# Altium footprint library Cornix_Library.PcbLib: 10 footprints
Each footprint in its own frame and in the unit in brackets; x right, y up, seen from the top. Pads: shape width x height; smd on the part's side, far side on the other; paste and mask are expansions set on the pad; w line width, h text height; cw(c..) or ccw(c..) is an arc to the next point about the centre after c.
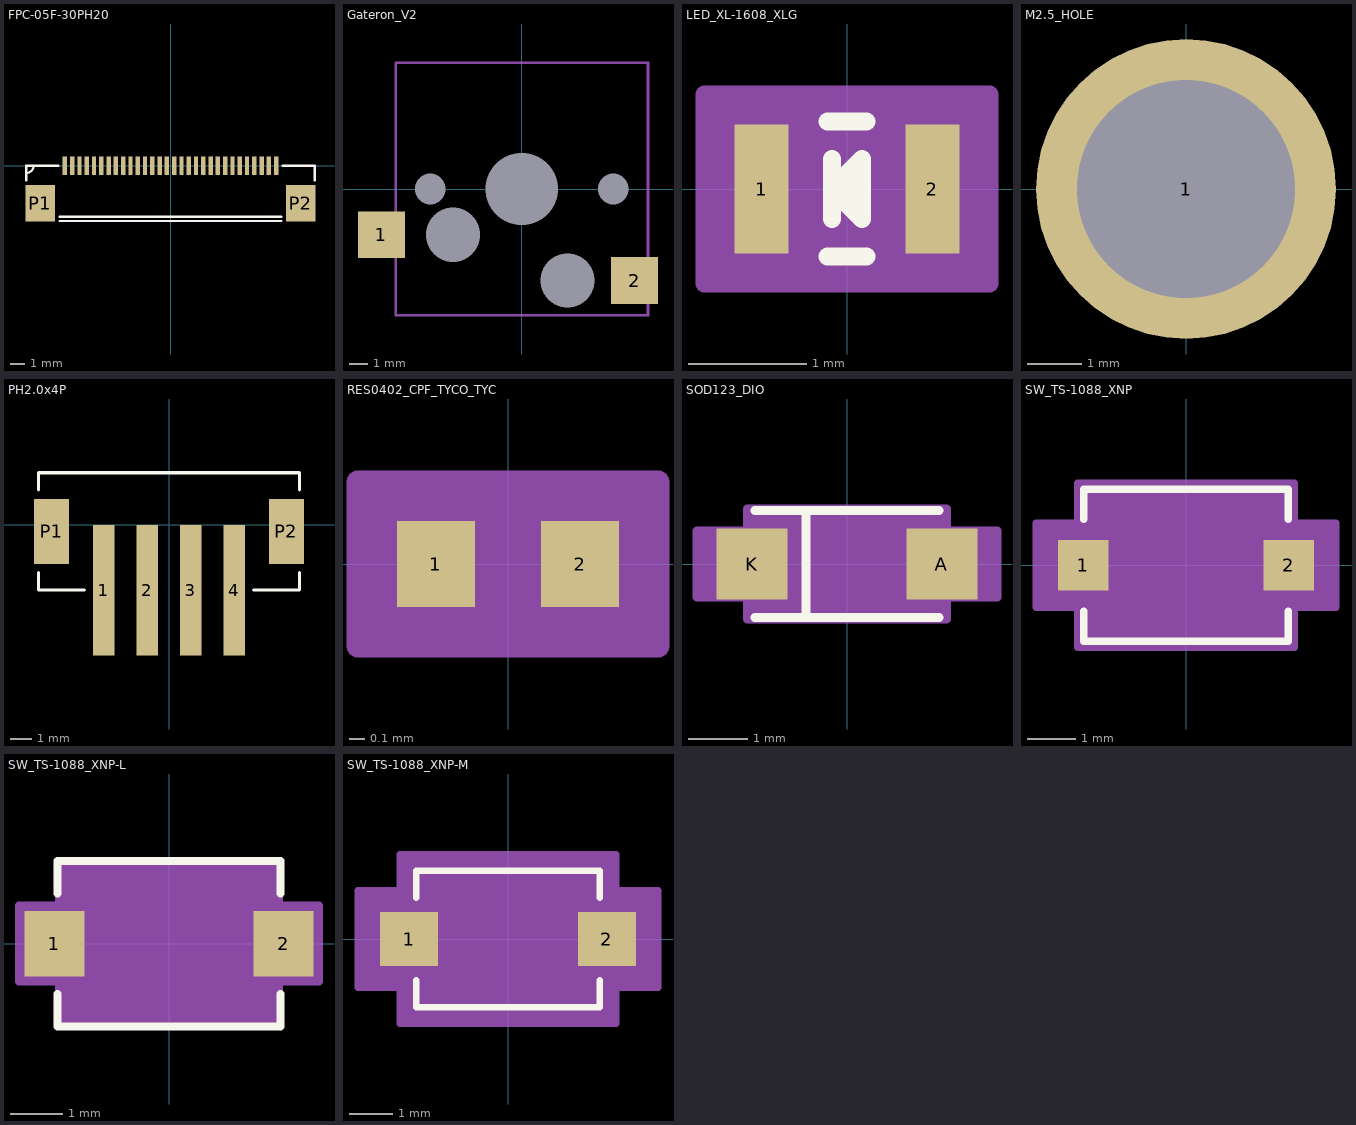
[diagram p0: the footprints below, top view; thin cyan lines are the x and y axes]

## FPC-05F-30PH20 [mm]
pads (32):
  rect 0.3x1.25 smd mask+0: 1(-7.25,0) 2(-6.75,0) 3(-6.25,0) 4(-5.75,0) 5(-5.25,0) 6(-4.75,0) 7(-4.25,0) 8(-3.75,0) 9(-3.25,0) 10(-2.75,0) 11(-2.25,0) 12(-1.75,0) 13(-1.25,0) 14(-0.75,0) 15(-0.25,0) 16(0.25,0) 17(0.75,0) 18(1.25,0) 19(1.75,0) 20(2.25,0) 21(2.75,0) 22(3.25,0) 23(3.75,0) 24(4.25,0) 25(4.75,0) 26(5.25,0) 27(5.75,0) 28(6.25,0) 29(6.75,0) 30(7.25,0)
  rect 2x2.5 smd: P1(-8.94,-2.575) P2(8.94,-2.575)
Top Overlay:
  lines w0.152: -9.9,-1 -9.9,0 -7.7,0 ; -9.9,-0.5 ccw(c-9.9,0) -9.4,0 ; -7.6,-3.8 7.6,-3.8 ; -7.6,-3.5 7.6,-3.5 ; 7.7,0 9.9,0 9.9,-1

## Gateron_V2 [mm]
pads (7):
  rect 2.6x2.6 smd: 1(-7.79,-2.54) 2(6.26,-5.08)
  round 0 hole 1.7: ""(-5.08,0) ""(5.08,0)
  round 0 hole 3: ""(-3.81,-2.54) ""(2.54,-5.08)
  round 0 hole 4: ""(0,0)
Mechanical 1:
  lines w0.152: -7,-7 7,-7 7,7 -7,7 -7,-7

## LED_XL-1608_XLG [mil]
pads (2):
  rect 18x43 smd paste+0 mask+0: 1(-28.5,0) 2(28.5,0)
Top Overlay:
  lines w6: -6.44,-22.5 6.44,-22.5 ; -6.44,22.5 6.44,22.5 ; -5,-10 -5,10 ; -5,0 5,10 ; -5,0 5,-10 5,10 ; -5,0 5,0 5,10
Mechanical 13:
  lines w1: -33.5,-17.5 -33.5,17.5 33.5,17.5 33.5,-17.5 -33.5,-17.5
Mechanical 15:
  region: -43.5,-31.5 -47.5,-31.5 -47.5,31.5 -43.5,31.5 43.5,31.5 47.5,31.5 47.5,-31.5 43.5,-31.5
  lines w6: -47.5,-31.5 -43.5,-31.5 43.5,-31.5 47.5,-31.5 47.5,31.5 43.5,31.5 -43.5,31.5 -47.5,31.5 -47.5,-31.5
3D body "LED_XL-1608_XLG.step": height 20.12, standoff -0.12, extent -33.5,-17.6 33.5,17.6

## M2.5_HOLE [mm]
pads (1):
  round 5.5 hole 4: 1(0,0)

## PH2.0x4P [mm]
pads (6):
  rect 1x6 smd: 1(-3,-3) 2(-1,-3) 3(1,-3) 4(3,-3)
  rect 1.6x3 smd: P1(-5.4,-0.3) P2(5.4,-0.3)
Top Overlay:
  lines w0.152: -6,-2.2 -6,-3 -3.9,-3 ; -6,1.6 -6,2.4 6,2.4 6,1.6 ; 3.9,-3 6,-3 6,-2.2

## RES0402_CPF_TYCO_TYC [mil]
pads (2):
  rect 20x22 smd paste+0 mask+0: 1(-18.5,0) 2(18.5,0)
Mechanical 13:
  lines w1: -20.5,-11 -20.5,11 ; -20.5,-11 -8.5,-11 -8.5,11 -20.5,11 ; -20.5,-11 20.5,-11 ; -20.5,-11 -20.5,11 ; -20.5,11 20.5,11 ; 20.5,-11 8.5,-11 8.5,11 20.5,11 ; 20.5,-11 20.5,11 ; 20.5,-11 20.5,11
Mechanical 15:
  region: 38.5,-21 -38.5,-21 -38.5,21 38.5,21
  lines w6: -38.5,-21 -38.5,21 38.5,21 38.5,-21 -38.5,-21
3D body "RES0402_CPF_TYCO_TYC.step": height 14.02, standoff 0, extent -20.51,-10.98 20.51,10.98

## SOD123_DIO [mm]
pads (2):
  rect 1.2x1.2 smd paste+0 mask+0: A(1.6,0) K(-1.6,0)
Top Overlay:
  lines w0.152: -1.552,-0.902 1.552,-0.902 ; -1.552,0.902 1.552,0.902 ; -0.689,-0.9 -0.689,0.9
Mechanical 13:
  lines w0.025: -1.425,-0.337 -1.087,-0.675 ; -1.425,0.337 -1.087,0.675 ; -1.925,-0.275 -1.425,-0.275 -1.425,0.275 -1.925,0.275 -1.925,-0.275 ; -1.425,-0.675 -1.425,0.675 1.425,0.675 1.425,-0.675 -1.425,-0.675 ; 1.425,-0.275 1.925,-0.275 1.925,0.275 1.425,0.275 1.425,-0.275
  text "*" at -1.488,-0.635 h1.27
Mechanical 15:
  region: -1.679,-0.559 -2.529,-0.559 -2.529,0.559 -1.679,0.559 -1.679,0.929 1.679,0.929 1.679,0.559 2.529,0.559 2.529,-0.559 1.679,-0.559 1.679,-0.929 -1.679,-0.929
  lines w0.152: -2.529,-0.559 -1.679,-0.559 -1.679,-0.929 1.679,-0.929 1.679,-0.559 2.529,-0.559 2.529,0.559 1.679,0.559 1.679,0.929 -1.679,0.929 -1.679,0.559 -2.529,0.559 -2.529,-0.559
3D body "SOD123_DIO.step": height 0.81, standoff 0, extent -1.925,-0.675 1.925,0.675

## SW_TS-1088_XNP [mm]
pads (2):
  rect 1.045x1.045 smd paste+0 mask+0: 1(-2.135,0) 2(2.135,0)
Top Overlay:
  lines w0.152: -2.121,-0.955 -2.121,-1.575 2.121,-1.575 2.121,-0.955 ; -2.121,0.955 -2.121,1.575 2.121,1.575 2.121,0.955
Mechanical 13:
  circle w0.025: c-1.613,0 r0.076
  lines w0.025: -0.305,1.448 ccw(c0,1.448) 0.305,1.448 ; -1.994,-1.448 1.994,-1.448 1.994,1.448 -1.994,1.448 -1.994,-1.448
Mechanical 15:
  region: -2.248,-0.876 -3.111,-0.876 -3.111,0.876 -2.248,0.876 -2.248,1.702 2.248,1.702 2.248,0.876 3.111,0.876 3.111,-0.876 2.248,-0.876 2.248,-1.702 -2.248,-1.702
  lines w0.152: -3.111,-0.876 -3.111,0.876 -2.248,0.876 -2.248,1.702 2.248,1.702 2.248,0.876 3.111,0.876 3.111,-0.876 2.248,-0.876 2.248,-1.702 -2.248,-1.702 -2.248,-0.876 -3.111,-0.876
3D body "SW_TS-1088_XNP.step": height 2.01, standoff 0, extent -2.553,-1.448 2.553,1.448

## SW_TS-1088_XNP-L [mil]
pads (2):
  rect 45x49 smd paste+0 mask+0: 1(-86,0) 2(86,0)
Top Overlay:
  lines w6: -83.5,-37.6 -83.5,-62 83.5,-62 83.5,-37.6 ; -83.5,37.6 -83.5,62 83.5,62 83.5,37.6
Mechanical 13:
  circle w1: c-63.5,0 r3
  lines w1: -12,57 ccw(c0,57) 12,57 ; -78.5,-57 -78.5,57 78.5,57 78.5,-57 -78.5,-57
Mechanical 15:
  region: -82.5,-28.5 -112.5,-28.5 -112.5,28.5 -82.5,28.5 -82.5,61 82.5,61 82.5,28.5 112.5,28.5 112.5,-28.5 82.5,-28.5 82.5,-61 -82.5,-61
  lines w6: -112.5,-28.5 -82.5,-28.5 -82.5,-61 82.5,-61 82.5,-28.5 112.5,-28.5 112.5,28.5 82.5,28.5 82.5,61 -82.5,61 -82.5,28.5 -112.5,28.5 -112.5,-28.5
3D body "SW_TS-1088_XNP.step": height 79.09, standoff 0, extent -100.51,-57.01 100.51,57.01

## SW_TS-1088_XNP-M [mil]
pads (2):
  rect 53x49 smd paste+0 mask+0: 1(-90,0) 2(90,0)
Top Overlay:
  lines w6: -83.5,-37.6 -83.5,-62 83.5,-62 83.5,-37.6 ; -83.5,37.6 -83.5,62 83.5,62 83.5,37.6
Mechanical 13:
  circle w1: c-63.5,0 r3
  lines w1: -12,57 ccw(c0,57) 12,57 ; -78.5,-57 -78.5,57 78.5,57 78.5,-57 -78.5,-57
Mechanical 15:
  region: -98.5,-44.5 -136.5,-44.5 -136.5,44.5 -98.5,44.5 -98.5,77 98.5,77 98.5,44.5 136.5,44.5 136.5,-44.5 98.5,-44.5 98.5,-77 -98.5,-77
  lines w6: -136.5,-44.5 -98.5,-44.5 -98.5,-77 98.5,-77 98.5,-44.5 136.5,-44.5 136.5,44.5 98.5,44.5 98.5,77 -98.5,77 -98.5,44.5 -136.5,44.5 -136.5,-44.5
3D body "SW_TS-1088_XNP.step": height 79.09, standoff 0, extent -100.51,-57.01 100.51,57.01